# Altium footprint library MergenElektronik_Capacitors_Ceramics_SMDs.PcbLib: 24 footprints (part 1 of 2)
Each footprint in its own frame and in the unit in brackets; x right, y up, seen from the top. Pads: shape width x height; smd on the part's side, far side on the other; paste and mask are expansions set on the pad; w line width, h text height; cw(c..) or ccw(c..) is an arc to the next point about the centre after c.
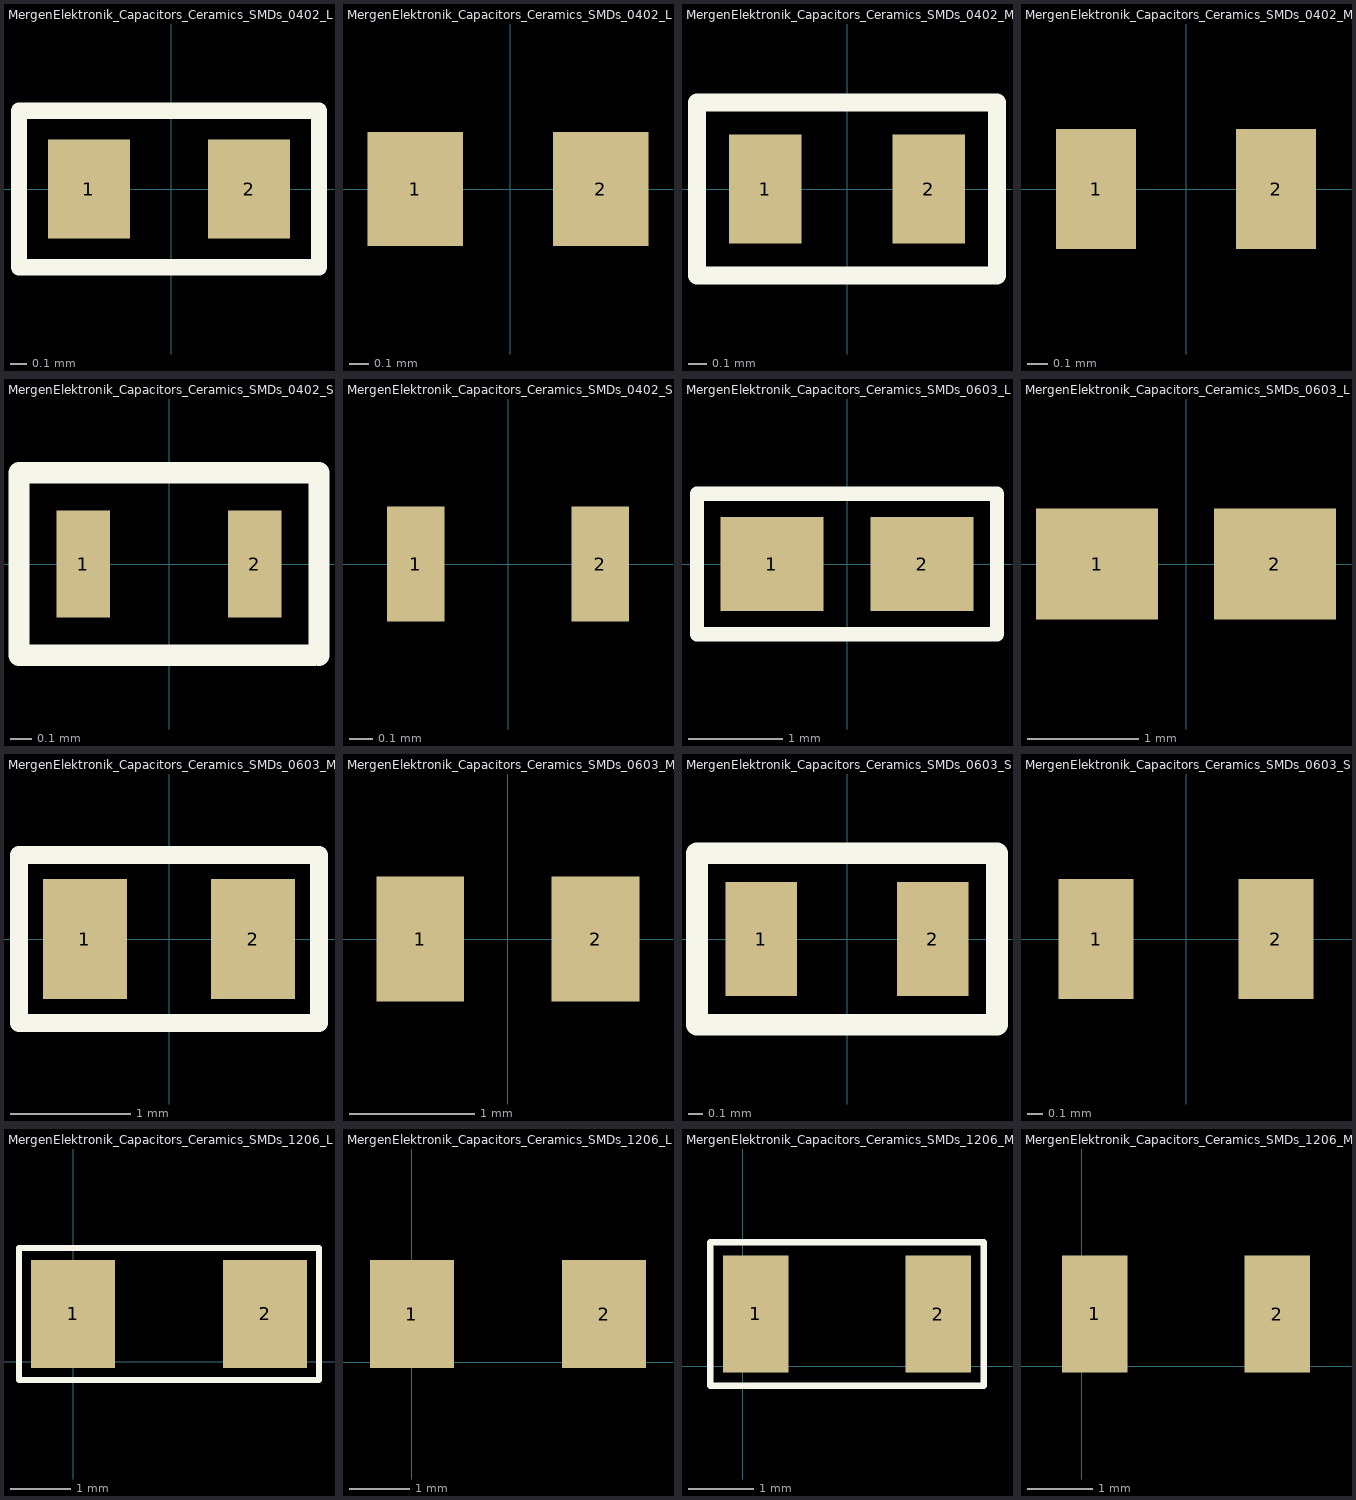
[diagram p0: the footprints below, top view; thin cyan lines are the x and y axes]

## MergenElektronik_Capacitors_Ceramics_SMDs_0402_L [mm] "0402 Large"
pads (2):
  rect 0.5x0.6 smd: 1(-0.5,0) 2(0.475,0)
Top Overlay:
  lines w0.1: -0.925,-0.475 -0.925,0.475 0.9,0.475 0.9,-0.475 -0.925,-0.475
3D body "MergenElektronik_Capacitors_Ceramics_SMDs_0402.stp": height 0.45, standoff 0, extent -0.5,-0.25 0.5,0.25

## MergenElektronik_Capacitors_Ceramics_SMDs_0402_L_NS [mm] "0402 Large - No Silkscreen"
pads (2):
  rect 0.5x0.6 smd: 1(-0.5,0) 2(0.475,0)
3D body "MergenElektronik_Capacitors_Ceramics_SMDs_0402.stp": height 0.45, standoff 0, extent -0.5,-0.25 0.5,0.25

## MergenElektronik_Capacitors_Ceramics_SMDs_0402_M [mm] "0402 Medium"
pads (2):
  rect 0.4x0.6 smd: 1(-0.45,0) 2(0.45,0)
Top Overlay:
  lines w0.1: -0.825,-0.475 -0.825,0.475 0.825,0.475 0.825,-0.475 -0.825,-0.475
3D body "MergenElektronik_Capacitors_Ceramics_SMDs_0402.stp": height 0.45, standoff 0, extent -0.5,-0.25 0.5,0.25

## MergenElektronik_Capacitors_Ceramics_SMDs_0402_M_NS [mm] "0402 Medium - No Silkscreen"
pads (2):
  rect 0.4x0.6 smd: 1(-0.45,0) 2(0.45,0)
3D body "MergenElektronik_Capacitors_Ceramics_SMDs_0402.stp": height 0.45, standoff 0, extent -0.5,-0.25 0.5,0.25

## MergenElektronik_Capacitors_Ceramics_SMDs_0402_S [mm] "0402 Small"
pads (2):
  rect 0.25x0.5 smd: 1(-0.4,0) 2(0.4,0)
Top Overlay:
  lines w0.1: 0.675,-0.425 -0.7,-0.425 -0.7,0.425 0.7,0.425 0.7,-0.425
3D body "MergenElektronik_Capacitors_Ceramics_SMDs_0402.stp": height 0.45, standoff 0, extent -0.5,-0.25 0.5,0.25

## MergenElektronik_Capacitors_Ceramics_SMDs_0402_S_NS [mm] "0402 Small - No Silkscreen"
pads (2):
  rect 0.25x0.5 smd: 1(-0.4,0) 2(0.4,0)
3D body "MergenElektronik_Capacitors_Ceramics_SMDs_0402.stp": height 0.45, standoff 0, extent -0.5,-0.25 0.5,0.25

## MergenElektronik_Capacitors_Ceramics_SMDs_0603_L [mm] "0603 Large"
pads (2):
  rect 1.1x1 smd: 1(-0.8,0) 2(0.8,0)
Top Overlay:
  lines w0.152: -1.6,-0.75 -1.6,0.75 -1.35,0.75 1.6,0.75 1.6,-0.75 -1.6,-0.75
3D body "NachtElectronic_Capacitors_Ceramics_SMDs-0603.stp": height 0.85, standoff 0, extent -0.8,-0.4 0.8,0.4

## MergenElektronik_Capacitors_Ceramics_SMDs_0603_L_NS [mm] "0603 Large - No Silkscreen"
pads (2):
  rect 1.1x1 smd: 1(-0.8,0) 2(0.8,0)
3D body "NachtElectronic_Capacitors_Ceramics_SMDs-0603.stp": height 0.85, standoff 0, extent -0.8,-0.4 0.8,0.4

## MergenElektronik_Capacitors_Ceramics_SMDs_0603_M [mm] "0603 Medium"
pads (2):
  rect 0.7x1 smd: 1(-0.7,0) 2(0.7,0)
Top Overlay:
  lines w0.152: -1.25,-0.7 1.25,-0.7 1.25,0.7 -1.25,0.7 -1.25,-0.7
3D body "NachtElectronic_Capacitors_Ceramics_SMDs-0603.stp": height 0.85, standoff 0, extent -0.8,-0.4 0.8,0.4

## MergenElektronik_Capacitors_Ceramics_SMDs_0603_M_NS [mm] "0603 Medium - No Silkscreen"
pads (2):
  rect 0.7x1 smd: 1(-0.7,0) 2(0.7,0)
3D body "NachtElectronic_Capacitors_Ceramics_SMDs-0603.stp": height 0.85, standoff 0, extent -0.8,-0.4 0.8,0.4

## MergenElektronik_Capacitors_Ceramics_SMDs_0603_S [mm] "0603 Small"
pads (2):
  rect 0.5x0.8 smd: 1(-0.6,0) 2(0.6,0)
Top Overlay:
  lines w0.152: -1.05,-0.6 -1.05,0.6 1.05,0.6 1.05,-0.6 -1.05,-0.6
3D body "NachtElectronic_Capacitors_Ceramics_SMDs-0603.stp": height 0.85, standoff 0, extent -0.8,-0.4 0.8,0.4

## MergenElektronik_Capacitors_Ceramics_SMDs_0603_S_NS [mm] "0603 Small - No Silkscreen"
pads (2):
  rect 0.5x0.8 smd: 1(-0.6,0) 2(0.6,0)
3D body "NachtElectronic_Capacitors_Ceramics_SMDs-0603.stp": height 0.85, standoff 0, extent -0.8,-0.4 0.8,0.4

## MergenElektronik_Capacitors_Ceramics_SMDs_1206_L [mm] "1206 Large"
pads (2):
  rect 1.4x1.8 smd: 1(0,0.8) 2(3.2,0.8)
Top Overlay:
  lines w0.1: -0.9,-0.3 -0.9,1.9 4.1,1.9 4.1,-0.3 -0.8,-0.3 -0.9,-0.3
3D body "MergenElektronik_Capacitors_Ceramics_SMDs_1206.stp": height 1.35, standoff 0, extent 0,0 3.2,1.6

## MergenElektronik_Capacitors_Ceramics_SMDs_1206_L_NS [mm] "1206 Large - No Silkscreen"
pads (2):
  rect 1.4x1.8 smd: 1(0,0.8) 2(3.2,0.8)
3D body "MergenElektronik_Capacitors_Ceramics_SMDs_1206.stp": height 1.35, standoff 0, extent 0,0 3.2,1.6

## MergenElektronik_Capacitors_Ceramics_SMDs_1206_M [mm] "1206 Medium"
pads (2):
  rect 1x1.8 smd: 1(0.2,0.8) 2(3,0.8)
Top Overlay:
  lines w0.1: -0.5,-0.3 -0.5,1.9 3.7,1.9 3.7,-0.3 -0.5,-0.3
3D body "MergenElektronik_Capacitors_Ceramics_SMDs_1206.stp": height 1.35, standoff 0, extent 0,0 3.2,1.6

## MergenElektronik_Capacitors_Ceramics_SMDs_1206_M_NS [mm] "1206 Medium - No Silkscreen"
pads (2):
  rect 1x1.8 smd: 1(0.2,0.8) 2(3,0.8)
3D body "MergenElektronik_Capacitors_Ceramics_SMDs_1206.stp": height 1.35, standoff 0, extent 0,0 3.2,1.6